# Altium footprint library 8UDFN.PcbLib: 1 footprints
Each footprint in its own frame and in the unit in brackets; x right, y up, seen from the top. Pads: shape width x height; smd on the part's side, far side on the other; paste and mask are expansions set on the pad; w line width, h text height; cw(c..) or ccw(c..) is an arc to the next point about the centre after c.
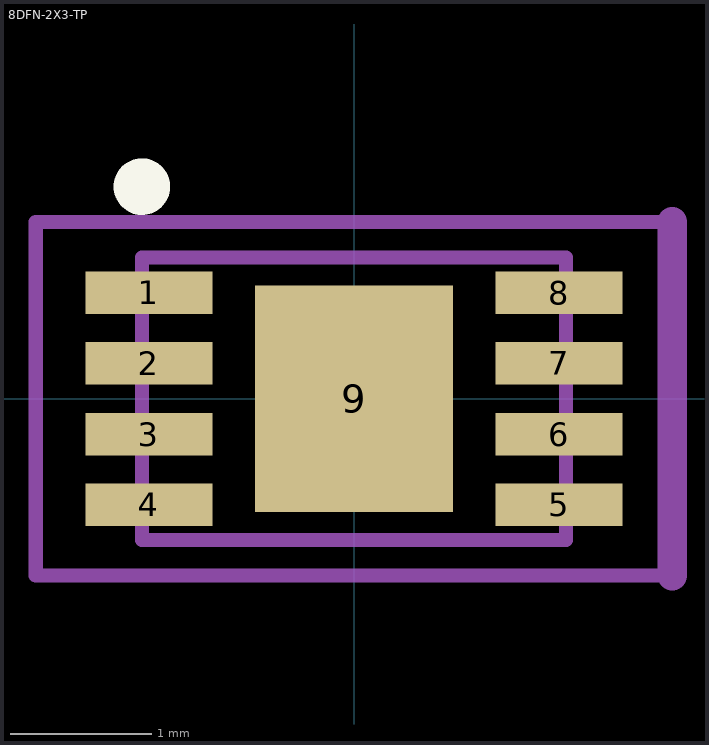
[diagram p0: the footprint, top view; thin cyan lines are the x and y axes]

## 8DFN-2X3-TP [mm] "8DFN 2X3MM WITH THERMAL PAD ATMEL"
height 0.6
pads (9):
  rect 0.9x0.3 smd: 1(-1.45,0.75) 2(-1.45,0.25) 3(-1.45,-0.25) 4(-1.45,-0.75) 5(1.45,-0.75) 6(1.45,-0.25) 7(1.45,0.25) 8(1.45,0.75)
  rect 1.4x1.6 smd: 9(0,0)
Top Overlay:
  circle w0.2: c-1.5,1.5 r0.1
Mechanical 13:
  lines w0.1: -1.5,-1 -1.5,1 1.5,1 1.5,-1 -1.5,-1
Mechanical 15:
  lines w0.1: 2.25,-1.25 -2.25,-1.25 -2.25,1.25 2.25,1.25
  lines w0.21: 2.25,-1.25 2.25,1.25
3D body: height 0.6, standoff 0, extent -1.5,-1 1.5,1